# Altium footprint library LED_3MM.PcbLib: 1 footprints
Each footprint in its own frame and in the unit in brackets; x right, y up, seen from the top. Pads: shape width x height; smd on the part's side, far side on the other; paste and mask are expansions set on the pad; w line width, h text height; cw(c..) or ccw(c..) is an arc to the next point about the centre after c.
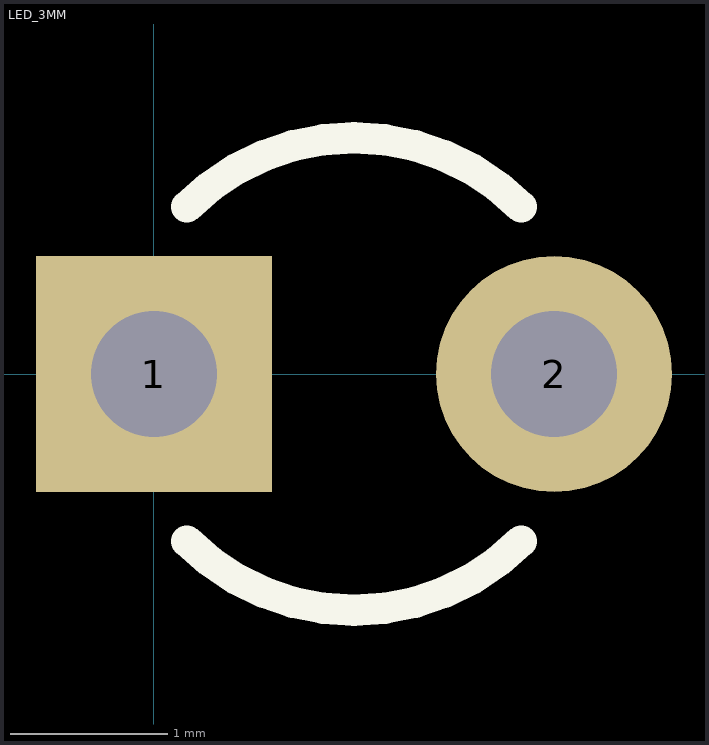
[diagram p0: the footprint, top view; thin cyan lines are the x and y axes]

## LED_3MM [mm]
pads (2):
  rect 1.5x1.5 hole 0.8: 1(0,0)
  round 1.5 hole 0.8: 2(2.54,0)
Top Overlay:
  lines w0.2: 0.209,-1.061 ccw(c1.27,0) 2.331,-1.061 ; 0.209,1.061 cw(c1.27,0) 2.331,1.061
3D body: height 16.6, standoff -1, extent -0.353,-1.6 2.894,1.6